# Altium schematic symbol library FDV301N.SchLib: 1 symbol
Pins are listed as number, name and electrical type; pins without a type are passive.

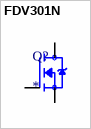
[diagram p0: symbol FDV301N]

## FDV301N
designator Q?
N-Channel 25V 220mA (Ta) 350mW (Ta) Surface Mount SuperSOT-3; MF: ON Semiconductor; MP: FDV301N; SnapEDA_Link: https://www.snapeda.com/parts/FDV301N/Onsemi/view-part/?ref=snap; Package: SOT-23-3 ON Semiconductor; Value: *; Check_prices: https://www.snapeda.com/parts/FDV301N/Onsemi/view-part/?ref=eda
footprint SOT95P237X111-3N
pins: 1 G, 2 S, 3 D